# EAGLE library part MC33202D (library MC33202D)
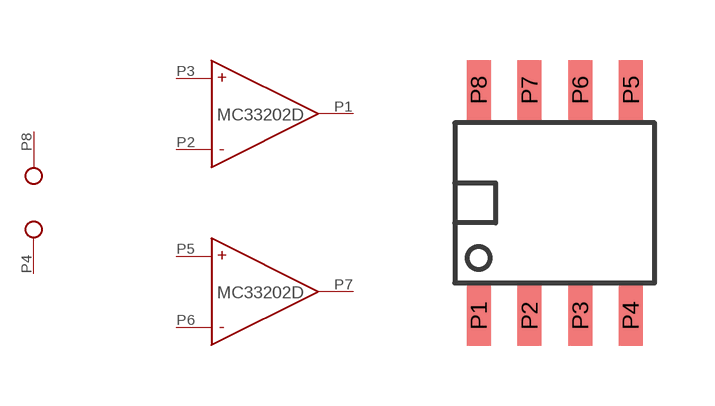
[diagram p0: symbol with the pads of MC33202D; footprint MC33202D]

Designator prefix -; gates G$1=PSUPLY G$2=MC33202D G$3=MC33202D

## MC33202D  [MC33202D]
P1  G$2:OUT  out
P2  G$2:IN-  in
P3  G$2:IN+  in
P4  G$1:GND  pwr
P5  G$3:IN+  in
P6  G$3:IN-  in
P7  G$3:OUT  out
P8  G$1:VCC  pwr

## Footprint MC33202D (pad centres in mm)
smd 0.6 x 1.5: P1 0.6,-0.82; P2 1.87,-0.82; P3 3.14,-0.82; P4 4.4,-0.82; P5 4.41,4.82; P6 3.14,4.82; P7 1.87,4.82; P8 0.6,4.82